# Altium footprint library K145IK1901.PcbLib: 1 footprints
Each footprint in its own frame and in the unit in brackets; x right, y up, seen from the top. Pads: shape width x height; smd on the part's side, far side on the other; paste and mask are expansions set on the pad; w line width, h text height; cw(c..) or ccw(c..) is an arc to the next point about the centre after c.
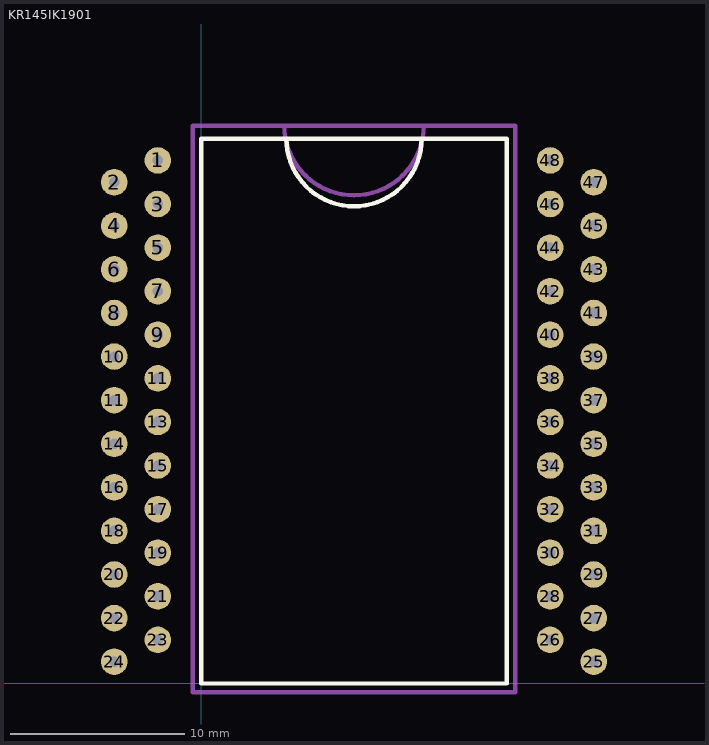
[diagram p0: the footprint, top view; thin cyan lines are the x and y axes]

## KR145IK1901 [mm]
pads (48):
  round 1.524 hole 0.6: 1(-2.5,30) 2(-5,28.75) 3(-2.5,27.5) 4(-5,26.25) 5(-2.5,25) 6(-5,23.75) 7(-2.5,22.5) 8(-5,21.25) 9(-2.5,20) 10(-5,18.75) 11(-5,16.25) 11(-2.5,17.5) 13(-2.5,15) 14(-5,13.75) 15(-2.5,12.5) 16(-5,11.25) 17(-2.5,10) 18(-5,8.75) 19(-2.5,7.5) 20(-5,6.25) 21(-2.5,5) 22(-5,3.75) 23(-2.5,2.5) 24(-5,1.25) 25(22.5,1.25) 26(20,2.5) 27(22.5,3.75) 28(20,5) 29(22.5,6.25) 30(20,7.5) 31(22.5,8.75) 32(20,10) 33(22.5,11.25) 34(20,12.5) 35(22.5,13.75) 36(20,15) 37(22.5,16.25) 38(20,17.5) 39(22.5,18.75) 40(20,20) 41(22.5,21.25) 42(20,22.5) 43(22.5,23.75) 44(20,25) 45(22.5,26.25) 46(20,27.5) 47(22.5,28.75) 48(20,30)
Top Overlay:
  lines w0.254: 4.869,31.25 ccw(c8.75,31.25) 12.631,31.25 ; 0,0 0,31.25 17.5,31.25 17.5,0 0,0
Mechanical 1:
  lines w0.254: 4.75,32 ccw(c8.75,32) 12.75,32 ; -0.5,-0.5 18,-0.5 18,32 -0.5,32 -0.5,-0.5
  text ".Designator" at 8.75,16 h1.52